# Altium footprint library led.PCBLIB: 37 footprints (part 1 of 3)
Each footprint in its own frame and in the unit in brackets; x right, y up, seen from the top. Pads: shape width x height; smd on the part's side, far side on the other; paste and mask are expansions set on the pad; w line width, h text height; cw(c..) or ccw(c..) is an arc to the next point about the centre after c.
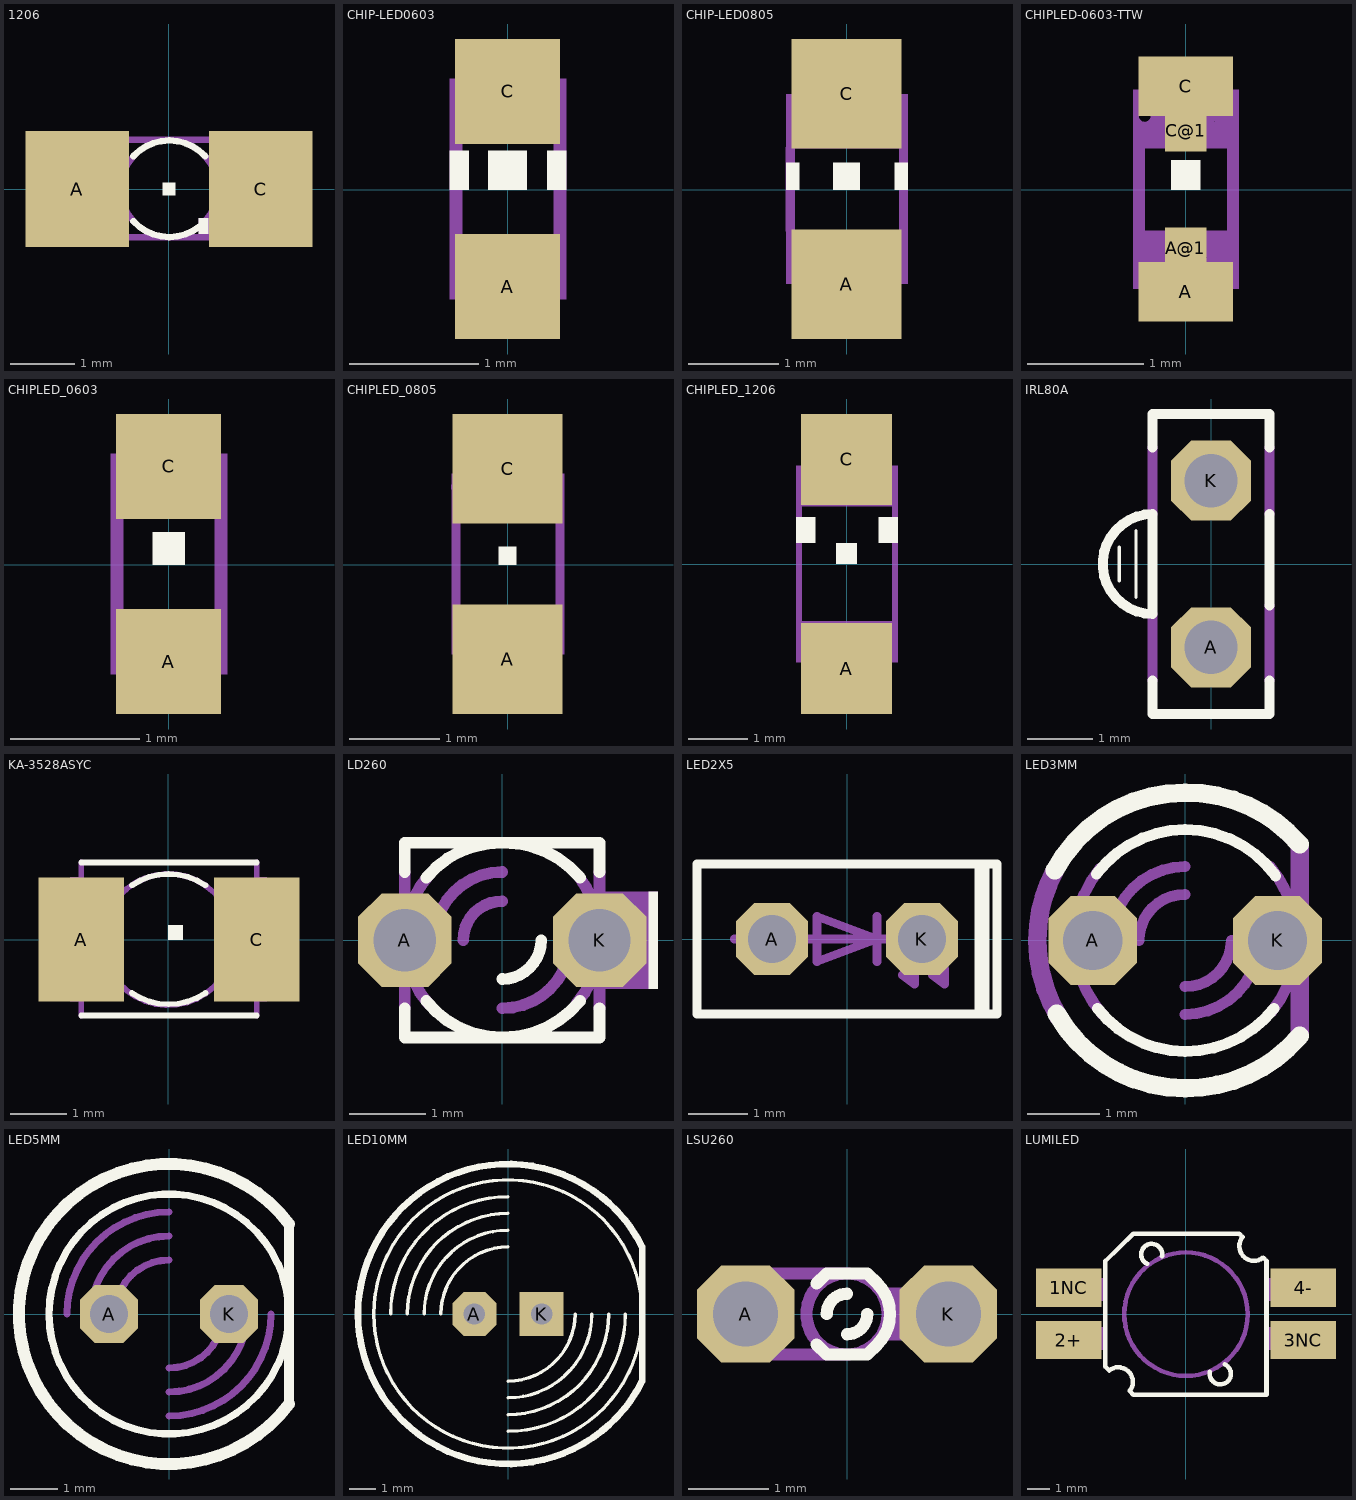
[diagram p0: the footprints below, top view; thin cyan lines are the x and y axes]

## 1206 [mil]
pads (2):
  rect 63x71 smd: A(-55.98,0) C(56,0)
Top Overlay:
  rectangle: -3.94,-3.94 4,4
  rectangle: 18,-27.56 24,-17.72
  lines w4: -21.65,-19.69 ccw(c0.17,0.16) 22,-19.69 ; -21.65,20 cw(c0.17,0.16) 22,20
Mechanical 16:
  rectangle: 18,-27.56 32,-17.72
  rectangle: 32,-27.56 36,20
  rectangle: 32,22 36,28
  rectangle: -35.43,-27.56 -31.5,20
  rectangle: -35.43,22 -31.5,28
  lines w4: -21.65,-19.69 cw(c0.17,0.16) -21.65,20 ; 22,-19.69 ccw(c0.17,0.16) 22,20 ; -61.02,-29.53 62,-29.53 62,30 -61.02,30 -61.02,-29.53

## CHIP-LED0603 [mil]
pads (2):
  rect 32x32 smd: A(0,-29.53) C(0,30)
Top Overlay:
  rectangle: -17.72,0 -11.81,12
  rectangle: 12,0 18,12
  rectangle: -5.91,0 6,12
Mechanical 16:
  rectangle: -17.72,18 18,34
  rectangle: -17.72,-33.46 18,-17.72
  lines w4: -15.75,-17.72 -15.75,18 ; 16,-17.72 16,18

## CHIP-LED0805 [mil]
pads (2):
  rect 48x48 smd: A(0,-41.34) C(0,42)
Top Overlay:
  rectangle: -26.57,0 -20.67,12
  rectangle: 21,0 27,12
  rectangle: -5.91,0 6,12
Mechanical 16:
  rectangle: -26.57,18 27,42
  rectangle: -26.57,-41.34 27,-17.72
  lines w4: -24.61,-17.72 -24.61,18 ; 25,-18.7 25,18

## CHIPLED-0603-TTW [mil]
pads (4):
  rect 32x20 smd: A(0,-34.45) C(0,35)
  rect 14x14 smd: A@1(0,-19.68) C@1(0,20)
Top Overlay:
  rectangle: -4.92,0 5,10
Top Solder:
  rectangle: -6.89,13 7,28
  rectangle: -15.75,25 16,45
  rectangle: -15.75,-44.29 16,-24.61
  rectangle: -6.89,-26.57 7,-12.8
Mechanical 16:
  circle w2: c-13.78,25 r3
  rectangle: -17.72,28 -9.84,34
  rectangle: -10.83,22 -8.86,24
  rectangle: -17.72,14 -15.75,29
  rectangle: 10,22 18,34
  rectangle: -17.72,14 18,23
  rectangle: -17.72,-33.46 -9.84,-13.78
  rectangle: 10,-33.46 18,-13.78
  rectangle: -10.83,-22.64 11,-13.78
  rectangle: -10.83,-25.59 -6.89,-21.65
  rectangle: 7,-25.59 11,-21.65
  lines w2: -10.83,-32.48 cw(c0.09,-32.48) 11,-32.48
  lines w4: -15.75,-13.78 -15.75,15 ; -11.81,32 ccw(c0.09,33.04) 12,32 ; 16,-13.78 16,14

## CHIPLED_0603 [mil]
pads (2):
  rect 32x32 smd: A(0,-29.53) C(0,30)
Top Overlay:
  rectangle: -4.92,0 5,10
Mechanical 16:
  circle w2: c-13.78,25 r3
  rectangle: -17.72,28 -9.84,34
  rectangle: -10.83,22 -8.86,24
  rectangle: -17.72,14 -15.75,29
  rectangle: 10,22 18,34
  rectangle: -17.72,14 18,23
  rectangle: -17.72,-33.46 -9.84,-13.78
  rectangle: 10,-33.46 18,-13.78
  rectangle: -10.83,-22.64 11,-13.78
  rectangle: -10.83,-25.59 -6.89,-21.65
  rectangle: 7,-25.59 11,-21.65
  lines w2: -10.83,-32.48 cw(c0.09,-32.48) 11,-32.48
  lines w4: -15.75,-13.78 -15.75,15 ; -11.81,32 ccw(c0.09,33.04) 12,32 ; 16,-13.78 16,14

## CHIPLED_0805 [mil]
pads (2):
  rect 48x48 smd: A(0,-41.34) C(0,42)
Top Overlay:
  rectangle: -3.94,0 4,8
Mechanical 16:
  circle w4: c-17.72,34 r5
  rectangle: 12,20 25,40
  rectangle: -12.8,20 -6.89,30
  rectangle: 7,20 13,30
  rectangle: -7.87,20 8,27
  rectangle: 12,-39.37 25,-19.68
  rectangle: -24.61,-39.37 -11.81,-19.68
  rectangle: 7,-29.53 13,-19.68
  rectangle: -12.8,-29.53 -6.89,-19.68
  rectangle: -7.87,-26.57 8,-19.68
  rectangle: -23.62,20 -11.81,32
  rectangle: -24.61,37 -11.81,40
  lines w4: -22.64,-19.68 -22.64,37 ; -13.78,-36.42 cw(c0.11,-38.57) 14,-36.42 ; -13.78,37 ccw(c0.11,39.15) 14,37 ; 23,-20.67 23,21

## CHIPLED_1206 [mil]
pads (2):
  rect 60x60 smd: A(0,-68.9) C(0,69)
Top Overlay:
  rectangle: -33.46,14 -20.67,31
  rectangle: 21,14 34,31
  rectangle: -6.89,0 7,14
Mechanical 16:
  circle w4: c-21.65,57 r4
  rectangle: -33.46,61 -13.78,65
  rectangle: -33.46,49 -24.61,62
  rectangle: -17.72,49 -12.8,58
  rectangle: -25.59,49 -8.86,54
  rectangle: 14,52 34,65
  rectangle: 10,49 34,54
  rectangle: -33.46,38 34,50
  rectangle: -33.46,-64.96 34,-37.4
  lines w4: -31.5,-37.4 -31.5,38 ; -15.75,63 ccw(c0.13,64.02) 16,63 ; 32,-37.4 32,38

## IRL80A [mil]
pads (2):
  oct 48x48 hole 32: A(0,-50) K(0,50)
Top Overlay:
  lines w2: -55,-10 -55,10 ; -45,-20 -45,20
  lines w6: -35,-70 -35,-90 35,-90 35,-70 ; -35,70 -35,90 35,90 35,70 ; 35,-25 35,30 ; -35,-30 -35,30 ccw(c-35,0) -35,-30
Mechanical 16:
  lines w6: -35,-70 -35,-30 ; -35,30 -35,70 ; 35,-70 35,-25 ; 35,30 35,70

## KA-3528ASYC [mil]
pads (2):
  rect 60x87 smd: A(-61.02,0) C(62,0)
Top Overlay:
  region: 0,0 10,0 10,10 0,10
  lines w4: -61.02,-53.15 62,-53.15 ; -61.02,54 62,54 ; -25.59,-37.4 ccw(c0.2,0.55) 26,-37.4 ; -25.59,38 cw(c0.2,0.05) 26,38
Mechanical 16:
  circle w4: c0,0 r46
  rectangle: -68.9,24 -62.99,44
  rectangle: -68.9,-43.31 -62.99,-23.62
  region: 69,-23.62 63,-23.62 63,-43.31 69,-43.31
  region: 69,44 63,44 63,24 69,24
  region: 0,0 10,0 10,10 0,10
  lines w4: -61.02,-53.15 -61.02,54 ; 62,-53.15 62,54

## LD260 [mil]
pads (2):
  oct 48x48 hole 32: A(-50,0) K(50,0)
Top Overlay:
  rectangle: 75,-25 80,25
  lines w6: -50,-35 -50,-50 0,-50 ; -50,35 -50,50 0,50 ; -39.04,-31.24 ccw(c0,0) 0,-50 ; -39.04,32 cw(c-0.8,0.38) 0,50 ; 0,-20 ccw(c0,0) 20,0 ; 40,-31.24 cw(c0.48,1) 0,-50 ; 40,32 ccw(c1.27,-0.61) 0,50 ; 50,-35 50,-50 0,-50 ; 50,35 50,50 0,50
Mechanical 16:
  rectangle: 50,-25 80,25
  lines w6: -50,-35 -50,0 ; -50,35 -50,0 ; -37.96,-32.54 cw(c0,0) -50,0 ; -37.96,33 ccw(c0.62,0.23) -50,0 ; -35,0 cw(c0,0) 0,35 ; -20,0 cw(c0,0) 0,20 ; 0,-35 ccw(c0,0) 35,0 ; 38,-32.93 ccw(c0.18,-0.49) 50,0 ; 39,33 cw(c-1.07,1.31) 50,0 ; 50,-35 50,0 ; 50,35 50,0

## LED2X5 [mil]
pads (2):
  oct 48x48 hole 32: A(-50,0) K(50,0)
Top Overlay:
  rectangle: 85,-50 95,50
  lines w6: -100,-50 100,-50 100,50 -100,50 -100,-50
Mechanical 16:
  lines w6: -75,0 20,0 ; 20,-15 20,0 ; 20,15 20,0 ; 35,-10 45,-30 ; 55,-10 65,-30 ; 70,0 20,0 ; 20,0 -20,15 -20,-15 20,0 ; 45,-30 45,-20 37,-24 45,-30 ; 65,-30 65,-20 57,-24 65,-30

## LED3MM [mil]
pads (2):
  oct 48x48 hole 32: A(-50,0) K(50,0)
Top Overlay:
  lines w6: -48,36 cw(c0,0) 0,60 cw(c0.21,-0.11) 49,35 ; -47.36,-36.83 ccw(c0,0) 0,-60 ccw(c0.32,0.65) 48,-36.83
  lines w10: -70.59,38 cw(c-0.29,0.18) 0,80 cw(c1.11,-0.19) 62,52 ; -69.46,-39.69 ccw(c0,0) 0,-80 ccw(c0.47,1) 62,-51.68
Mechanical 16:
  lines w6: -46.09,39 ccw(c0.82,0.3) -60,0 ccw(c0,0) -44.85,-39.86 ; -40,0 cw(c0,0) 0,40 ; -25,0 cw(c0,0) 0,25 ; 0,-40 ccw(c0,0) 40,0 ; 0,-25 ccw(c0,0) 25,0 ; 46,40 cw(c-1.07,1.08) 60,0 cw(c0.45,-1.25) 47,-38.41
  lines w10: -70.44,38 ccw(c0.14,0.04) -80,0 ccw(c0,0) -68.13,-41.93 ; 62,-50 62,50

## LED5MM [mil]
pads (2):
  oct 48x48 hole 32: A(-50,0) K(50,0)
Top Overlay:
  circle w6: c0,0 r100
  lines w8: 100,-75 100,75
  lines w10: 100,-75 cw(c0,0) 100,75
Mechanical 16:
  lines w6: -85,0 cw(c0,0) 0,85 ; -65,0 cw(c0,0) 0,65 ; -45,0 cw(c0,0) 0,45 ; 0,-85 ccw(c0,0) 85,0 ; 0,-65 ccw(c0,0) 65,0 ; 0,-45 ccw(c0,0) 45,0

## LED10MM [mil]
pads (2):
  oct 66x66 hole 32: A(-50,0)
  rect 66x66 hole 32: K(50,0)
Top Overlay:
  circle w5: c0,0 r200
  lines w5: -175,0 cw(c0,0) 0,175 ; -150,0 cw(c0,0) 0,150 ; -125,0 cw(c0,0) 0,125 ; -100,0 cw(c0,0) 0,100 ; 0,-175 ccw(c0,0) 175,0 ; 0,-150 ccw(c0,0) 150,0 ; 0,-125 ccw(c0,0) 125,0 ; 0,-100 ccw(c0,0) 100,0
  lines w10: 200,-100 cw(c0,0) 200,100 200,-100

## LSU260 [mil]
pads (2):
  oct 48x48 hole 32: A(-50,0) K(50,0)
Top Overlay:
  lines w6: -15,-15 -10,-20 10,-20 15,-15 ccw(c0,0) 15,15 10,20 -10,20 -15,15 ; -10,0 cw(c0,0) 0,10 ; 0,-10 ccw(c0,0) 10,0
Mechanical 16:
  circle w6: c0,0 r20
  rectangle: -55,-10 -45,10
  rectangle: 20,-10 55,10
  lines w6: 0,-20 -45,-20 -45,-10 ; 0,20 -45,20 -45,10 ; 20,-10 55,-10 55,10 20,10 ; -45,-10 -55,-10 -55,10 -45,10 ; -45,-10 -45,10

## LUMILED [mil]
pads (4):
  rect 115x67 smd: 1NC(-204.72,46) 2+(-204.72,-45.28) 3NC(205,-45.28) 4-(205,46)
Top Overlay:
  lines w8: -67.91,88 cw(c-59.9,104.59) -41.83,101 ; 42,-100.89 ccw(c60.14,-104.3) 68,-87.6 ; -140.75,-92.03 -134.35,-98.43 cw(c-118.37,-118.37) -98.43,-134.35 -92.03,-140.75 141,-140.75 141,93 135,99 cw(c118.98,118.98) 99,135 93,141 -92.03,141 -140.75,93 -140.75,-92.03
Top Paste:
  region: 0,0 10,0 10,10 0,10
Top Solder:
  region: 0,0 10,0 10,10 0,10
Mechanical 16:
  circle w8: c0,0 r108
  rectangle: -235.24,23 -142.72,63
  rectangle: -235.24,-62.99 -142.72,-22.64
  region: 236,-22.64 143,-22.64 143,-62.99 236,-62.99
  region: 236,63 143,63 143,23 236,23